# Altium integrated library TI_Logic_Flip-Flop,Latch,Register.IntLib: 2598 symbols (part 84 of 122)
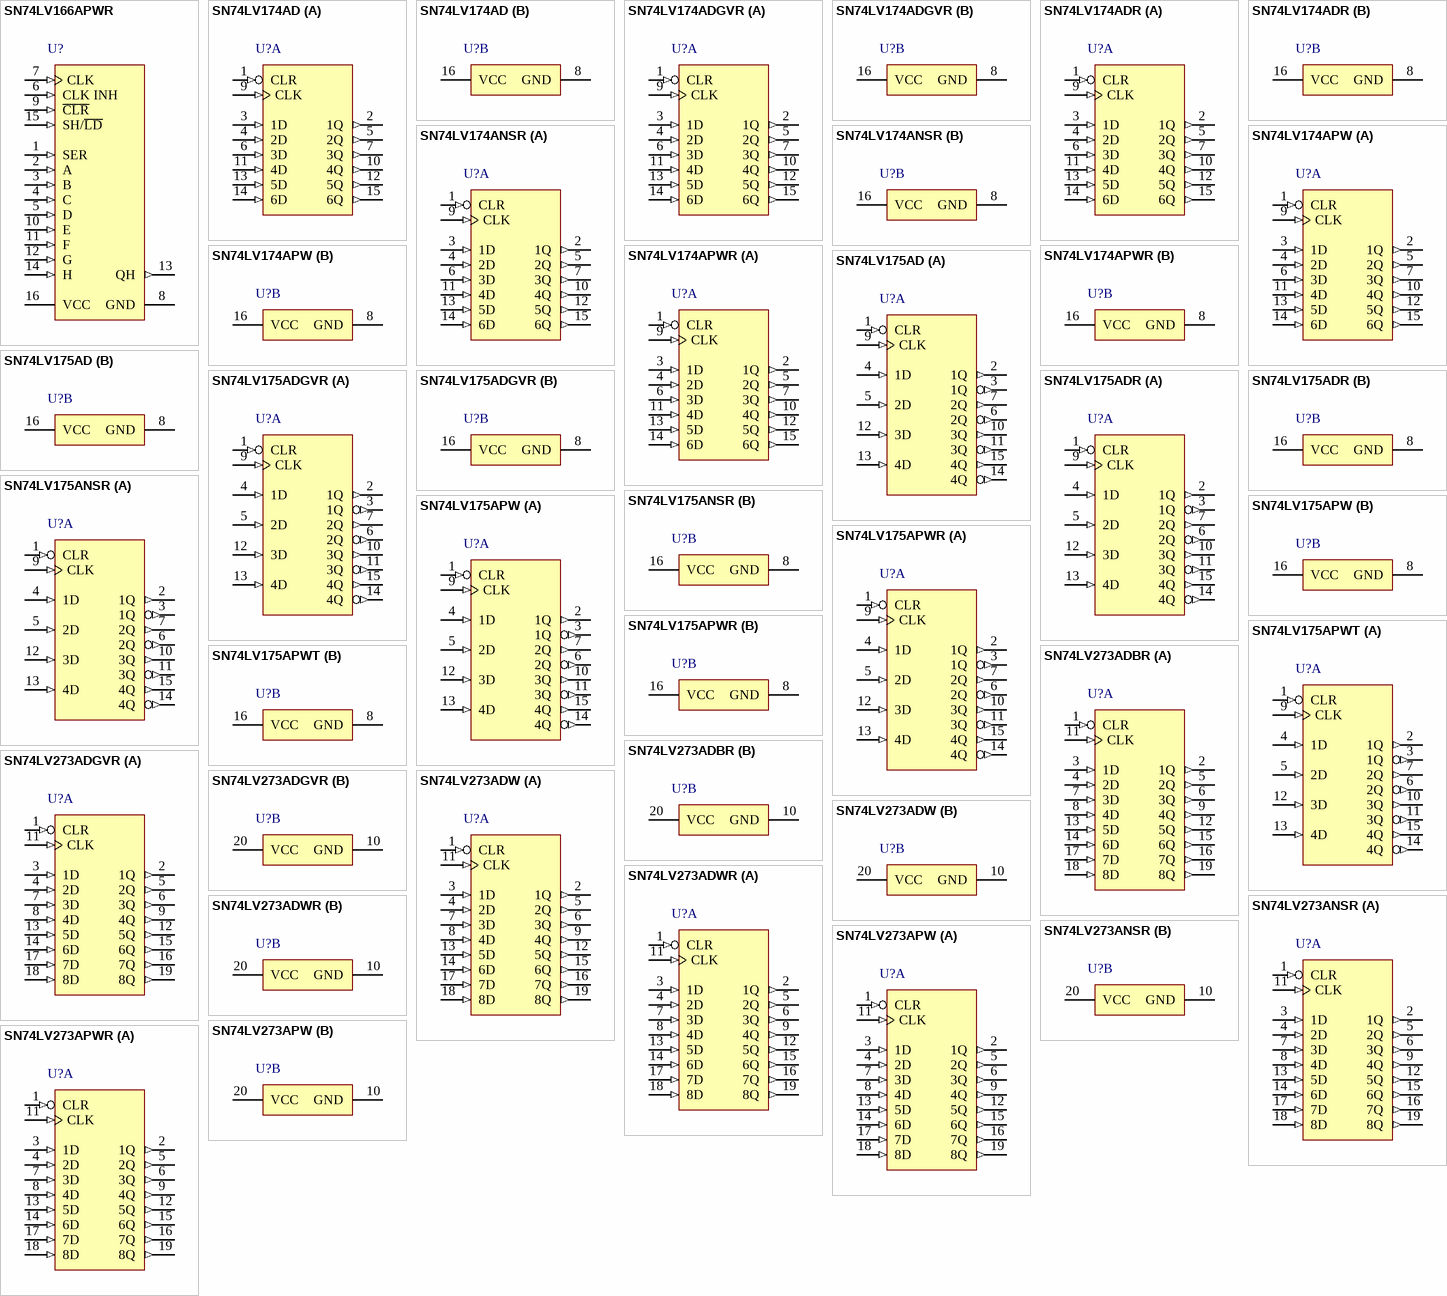
[diagram p222: symbols SN74LV166APWR to SN74LV273APWR]

## SN74LV174APW
designator U?
Hex D-Type Flip-Flops With Clear, PW0016A, TUBE; Generic Part Number: SN74LV174A; Manufacturer: Texas Instruments; PartNumber: SN74LV174APW; VCC(Min)(V): 2; VCC(Max)(V): 5.5; Output Type: CMOS; ICC @ Nom Voltage(Max)(mA): 0.02; Bits(#): 6; F @ Nom Voltage(Max)(Mhz): 70; Rating: Catalog; Technology Family: LV-A; Voltage(Nom)(V): 2.5,3.3,5; Schmitt Trigger: No; Output Drive (IOL/IOH)(Max)(mA): 50/-50; Output Logic: Non-inverted; tpd @ Nom Voltage(Max)(ns): 19.5,13.5,9; DatasheetVersion: SCLS401G; PackageReference: PW0016A; Supplier 1: Digi-Key; Supplier Part Number 1: SN74LV174APW-ND; Supplier 2: Farnell; Supplier Part Number 2: 1741124; Supplier 3: Mouser; Supplier Part Number 3: 595-SN74LV174APW; Input Type: CMOS; Operating Temperature Range(C): -40 to 85; 3-State Output: No; Code_JEDEC: MO-153; ComponentLink1Description: Manufacturer URL; ComponentLink1URL: http://www.ti.com/; ComponentLink2Description: Datasheet; ComponentLink2URL: http://www.ti.com/lit/ds/symlink/sn74lv174a.pdf; ComponentLink3Description: Package Specification; ComponentLink3URL: http://www.ti.com/lit/ml/mpds361/mpds361.pdf
footprint PW0016A_N (SOP, 16-Leads, Body 5.1x4.5mm, Pitch 0.65mm, IPC Medium Density)
footprint PW0016A_M (SOP, 16-Leads, Body 5.1x4.5mm, Pitch 0.65mm, IPC Low Density)
footprint PW0016A_L (SOP, 16-Leads, Body 5.1x4.5mm, Pitch 0.65mm, IPC High Density)
part A pins: 1 CLR (in), 2 1Q (out), 3 1D (in), 4 2D (in), 5 2Q (out), 6 3D (in), 7 3Q (out), 9 CLK (in), 10 4Q (out), 11 4D (in), 12 5Q (out), 13 5D (in), 14 6D (in), 15 6Q (out)
part B pins: 8 GND (power), 16 VCC (power)

## SN74LV174APWR
designator U?
Hex D-Type Flip-Flops With Clear, PW0016A, LARGE T&R; Generic Part Number: SN74LV174A; Manufacturer: Texas Instruments; PartNumber: SN74LV174APWR; VCC(Min)(V): 2; VCC(Max)(V): 5.5; Output Type: CMOS; ICC @ Nom Voltage(Max)(mA): 0.02; Bits(#): 6; F @ Nom Voltage(Max)(Mhz): 70; Rating: Catalog; Technology Family: LV-A; Voltage(Nom)(V): 2.5,3.3,5; Schmitt Trigger: No; Output Drive (IOL/IOH)(Max)(mA): 50/-50; Output Logic: Non-inverted; tpd @ Nom Voltage(Max)(ns): 19.5,13.5,9; DatasheetVersion: SCLS401G; PackageReference: PW0016A; Supplier 1: Digi-Key; Supplier Part Number 1: 296-3792-2-ND; Supplier 2: Digi-Key; Supplier Part Number 2: 296-3792-1-ND; Supplier 3: Mouser; Supplier Part Number 3: 595-SN74LV174APWR; Input Type: CMOS; Operating Temperature Range(C): -40 to 85; 3-State Output: No; Code_JEDEC: MO-153; ComponentLink1Description: Manufacturer URL; ComponentLink1URL: http://www.ti.com/; ComponentLink2Description: Datasheet; ComponentLink2URL: http://www.ti.com/lit/ds/symlink/sn74lv174a.pdf; ComponentLink3Description: Package Specification; ComponentLink3URL: http://www.ti.com/lit/ml/mpds361/mpds361.pdf
footprint PW0016A_N (SOP, 16-Leads, Body 5.1x4.5mm, Pitch 0.65mm, IPC Medium Density)
footprint PW0016A_M (SOP, 16-Leads, Body 5.1x4.5mm, Pitch 0.65mm, IPC Low Density)
footprint PW0016A_L (SOP, 16-Leads, Body 5.1x4.5mm, Pitch 0.65mm, IPC High Density)
part A pins: 1 CLR (in), 2 1Q (out), 3 1D (in), 4 2D (in), 5 2Q (out), 6 3D (in), 7 3Q (out), 9 CLK (in), 10 4Q (out), 11 4D (in), 12 5Q (out), 13 5D (in), 14 6D (in), 15 6Q (out)
part B pins: 8 GND (power), 16 VCC (power)

## SN74LV175AD
designator U?
Quadruple D-Type Flip-Flops With Clear, D0016A, TUBE; Generic Part Number: SN74LV175A; Manufacturer: Texas Instruments; PartNumber: SN74LV175AD; VCC(Min)(V): 2; VCC(Max)(V): 5.5; Output Type: CMOS; ICC @ Nom Voltage(Max)(mA): 0.02; Bits(#): 4; F @ Nom Voltage(Max)(Mhz): 70; Rating: Catalog; Technology Family: LV-A; Voltage(Nom)(V): 2.5,3.3,5; Schmitt Trigger: No; Output Drive (IOL/IOH)(Max)(mA): 50/-50; Output Logic: Inverted,Non-inverted; tpd @ Nom Voltage(Max)(ns): 20,12,7.5; DatasheetVersion: SCLS400G; PackageReference: D0016A; Supplier 1: Digi-Key; Supplier Part Number 1: 296-1682-5-ND; Supplier 2: Newark; Supplier Part Number 2: 76C4769; Supplier 3: Mouser; Supplier Part Number 3: 595-SN74LV175AD; Input Type: CMOS; Operating Temperature Range(C): -40 to 85; 3-State Output: No; Code_JEDEC: MS-012 variation AC; ComponentLink1Description: Manufacturer URL; ComponentLink1URL: http://www.ti.com/; ComponentLink2Description: Datasheet; ComponentLink2URL: http://www.ti.com/lit/ds/symlink/sn74lv175a.pdf; ComponentLink3Description: Package Specification; ComponentLink3URL: http://www.ti.com/lit/ml/mpds178g/mpds178g.pdf
footprint D0016A_N (SOIC, 16-Leads, Body 10x4mm, Pitch 1.27mm, IPC Medium Density)
footprint D0016A_M (SOIC, 16-Leads, Body 10x4mm, Pitch 1.27mm, IPC Low Density)
footprint D0016A_L (SOIC, 16-Leads, Body 10x4mm, Pitch 1.27mm, IPC High Density)
part A pins: 1 CLR (in), 2 1Q (out), 3 1Q (out), 4 1D (in), 5 2D (in), 6 2Q (out), 7 2Q (out), 9 CLK (in), 10 3Q (out), 11 3Q (out), 12 3D (in), 13 4D (in), 14 4Q (out), 15 4Q (out)
part B pins: 8 GND (power), 16 VCC (power)

## SN74LV175ADGVR
designator U?
Quadruple D-Type Flip-Flops With Clear, DGV0016A, LARGE T&R; Generic Part Number: SN74LV175A; Manufacturer: Texas Instruments; PartNumber: SN74LV175ADGVR; VCC(Min)(V): 2; VCC(Max)(V): 5.5; Output Type: CMOS; ICC @ Nom Voltage(Max)(mA): 0.02; Bits(#): 4; F @ Nom Voltage(Max)(Mhz): 70; Rating: Catalog; Technology Family: LV-A; Voltage(Nom)(V): 2.5,3.3,5; Schmitt Trigger: No; Output Drive (IOL/IOH)(Max)(mA): 50/-50; Output Logic: Inverted,Non-inverted; tpd @ Nom Voltage(Max)(ns): 20,12,7.5; DatasheetVersion: SCLS400G; PackageReference: DGV0016A; Supplier 1: Digi-Key; Supplier Part Number 1: 296-23263-2-ND; Supplier 2: Digi-Key; Supplier Part Number 2: 296-23263-1-ND; Supplier 3: Digi-Key; Supplier Part Number 3: 296-23263-6-ND; Supplier 4: Mouser; Supplier Part Number 4: 595-SN74LV175ADGVR; Input Type: CMOS; Operating Temperature Range(C): -40 to 85; 3-State Output: No; Code_JEDEC: MO-194; ComponentLink1Description: Manufacturer URL; ComponentLink1URL: http://www.ti.com/; ComponentLink2Description: Datasheet; ComponentLink2URL: http://www.ti.com/lit/ds/symlink/sn74lv175a.pdf; ComponentLink3Description: Package Specification; ComponentLink3URL: http://www.ti.com/lit/ml/mpds006c/mpds006c.pdf
footprint DGV0016A_N (SOP, 16-Leads, Body 4.5x3.7mm, Pitch 0.4mm, IPC Medium Density)
footprint DGV0016A_M (SOP, 16-Leads, Body 4.5x3.7mm, Pitch 0.4mm, IPC Low Density)
footprint DGV0016A_L (SOP, 16-Leads, Body 4.5x3.7mm, Pitch 0.4mm, IPC High Density)
part A pins: 1 CLR (in), 2 1Q (out), 3 1Q (out), 4 1D (in), 5 2D (in), 6 2Q (out), 7 2Q (out), 9 CLK (in), 10 3Q (out), 11 3Q (out), 12 3D (in), 13 4D (in), 14 4Q (out), 15 4Q (out)
part B pins: 8 GND (power), 16 VCC (power)

## SN74LV175ADR
designator U?
Quadruple D-Type Flip-Flops With Clear, D0016A, LARGE T&R; Generic Part Number: SN74LV175A; Manufacturer: Texas Instruments; PartNumber: SN74LV175ADR; VCC(Min)(V): 2; VCC(Max)(V): 5.5; Output Type: CMOS; ICC @ Nom Voltage(Max)(mA): 0.02; Bits(#): 4; F @ Nom Voltage(Max)(Mhz): 70; Rating: Catalog; Technology Family: LV-A; Voltage(Nom)(V): 2.5,3.3,5; Schmitt Trigger: No; Output Drive (IOL/IOH)(Max)(mA): 50/-50; Output Logic: Inverted,Non-inverted; tpd @ Nom Voltage(Max)(ns): 20,12,7.5; DatasheetVersion: SCLS400G; PackageReference: D0016A; Supplier 1: Digi-Key; Supplier Part Number 1: 296-38246-2-ND; Supplier 2: Digi-Key; Supplier Part Number 2: 296-38246-1-ND; Supplier 3: Digi-Key; Supplier Part Number 3: 296-38246-6-ND; Supplier 4: Mouser; Supplier Part Number 4: 595-SN74LV175ADR; Input Type: CMOS; Operating Temperature Range(C): -40 to 85; 3-State Output: No; Code_JEDEC: MS-012 variation AC; ComponentLink1Description: Manufacturer URL; ComponentLink1URL: http://www.ti.com/; ComponentLink2Description: Datasheet; ComponentLink2URL: http://www.ti.com/lit/ds/symlink/sn74lv175a.pdf; ComponentLink3Description: Package Specification; ComponentLink3URL: http://www.ti.com/lit/ml/mpds178g/mpds178g.pdf
footprint D0016A_N (SOIC, 16-Leads, Body 10x4mm, Pitch 1.27mm, IPC Medium Density)
footprint D0016A_M (SOIC, 16-Leads, Body 10x4mm, Pitch 1.27mm, IPC Low Density)
footprint D0016A_L (SOIC, 16-Leads, Body 10x4mm, Pitch 1.27mm, IPC High Density)
part A pins: 1 CLR (in), 2 1Q (out), 3 1Q (out), 4 1D (in), 5 2D (in), 6 2Q (out), 7 2Q (out), 9 CLK (in), 10 3Q (out), 11 3Q (out), 12 3D (in), 13 4D (in), 14 4Q (out), 15 4Q (out)
part B pins: 8 GND (power), 16 VCC (power)

## SN74LV175ANSR
designator U?
Quadruple D-Type Flip-Flops With Clear, NS0016A, LARGE T&R; Generic Part Number: SN74LV175A; Manufacturer: Texas Instruments; PartNumber: SN74LV175ANSR; VCC(Min)(V): 2; VCC(Max)(V): 5.5; Output Type: CMOS; ICC @ Nom Voltage(Max)(mA): 0.02; Bits(#): 4; F @ Nom Voltage(Max)(Mhz): 70; Rating: Catalog; Technology Family: LV-A; Voltage(Nom)(V): 2.5,3.3,5; Schmitt Trigger: No; Output Drive (IOL/IOH)(Max)(mA): 50/-50; Output Logic: Inverted,Non-inverted; tpd @ Nom Voltage(Max)(ns): 20,12,7.5; DatasheetVersion: SCLS400G; PackageReference: NS0016A; Supplier 1: Digi-Key; Supplier Part Number 1: 296-13229-2-ND; Supplier 2: Digi-Key; Supplier Part Number 2: 296-13229-1-ND; Supplier 3: Digi-Key; Supplier Part Number 3: 296-13229-6-ND; Supplier 4: Mouser; Supplier Part Number 4: 595-SN74LV175ANSR; Input Type: CMOS; Operating Temperature Range(C): -40 to 85; 3-State Output: No; ComponentLink1Description: Manufacturer URL; ComponentLink1URL: http://www.ti.com/; ComponentLink2Description: Datasheet; ComponentLink2URL: http://www.ti.com/lit/ds/symlink/sn74lv175a.pdf; ComponentLink3Description: Package Specification; ComponentLink3URL: http://www.ti.com/lit/ml/msop002a/msop002a.pdf
footprint NS0016A_N (SOIC,16-Leads,Body 10.5x5.6mm,Pitch 1.27mm,IPC Medium Density)
footprint NS0016A_M (SOIC,16-Leads,Body 10.5x5.6mm,Pitch 1.27mm,IPC Low Density)
footprint NS0016A_L (SOIC,16-Leads,Body 10.5x5.6mm,Pitch 1.27mm,IPC High Density)
part A pins: 1 CLR (in), 2 1Q (out), 3 1Q (out), 4 1D (in), 5 2D (in), 6 2Q (out), 7 2Q (out), 9 CLK (in), 10 3Q (out), 11 3Q (out), 12 3D (in), 13 4D (in), 14 4Q (out), 15 4Q (out)
part B pins: 8 GND (power), 16 VCC (power)

## SN74LV175APW
designator U?
Quadruple D-Type Flip-Flops With Clear, PW0016A, TUBE; Generic Part Number: SN74LV175A; Manufacturer: Texas Instruments; PartNumber: SN74LV175APW; VCC(Min)(V): 2; VCC(Max)(V): 5.5; Output Type: CMOS; ICC @ Nom Voltage(Max)(mA): 0.02; Bits(#): 4; F @ Nom Voltage(Max)(Mhz): 70; Rating: Catalog; Technology Family: LV-A; Voltage(Nom)(V): 2.5,3.3,5; Schmitt Trigger: No; Output Drive (IOL/IOH)(Max)(mA): 50/-50; Output Logic: Inverted,Non-inverted; tpd @ Nom Voltage(Max)(ns): 20,12,7.5; DatasheetVersion: SCLS400G; PackageReference: PW0016A; Supplier 1: Digi-Key; Supplier Part Number 1: SN74LV175APW-ND; Supplier 2: Mouser; Supplier Part Number 2: 595-SN74LV175APW; Input Type: CMOS; Operating Temperature Range(C): -40 to 85; 3-State Output: No; Code_JEDEC: MO-153; ComponentLink1Description: Manufacturer URL; ComponentLink1URL: http://www.ti.com/; ComponentLink2Description: Datasheet; ComponentLink2URL: http://www.ti.com/lit/ds/symlink/sn74lv175a.pdf; ComponentLink3Description: Package Specification; ComponentLink3URL: http://www.ti.com/lit/ml/mpds361/mpds361.pdf
footprint PW0016A_N (SOP, 16-Leads, Body 5.1x4.5mm, Pitch 0.65mm, IPC Medium Density)
footprint PW0016A_M (SOP, 16-Leads, Body 5.1x4.5mm, Pitch 0.65mm, IPC Low Density)
footprint PW0016A_L (SOP, 16-Leads, Body 5.1x4.5mm, Pitch 0.65mm, IPC High Density)
part A pins: 1 CLR (in), 2 1Q (out), 3 1Q (out), 4 1D (in), 5 2D (in), 6 2Q (out), 7 2Q (out), 9 CLK (in), 10 3Q (out), 11 3Q (out), 12 3D (in), 13 4D (in), 14 4Q (out), 15 4Q (out)
part B pins: 8 GND (power), 16 VCC (power)

## SN74LV175APWR
designator U?
Quadruple D-Type Flip-Flops With Clear, PW0016A, LARGE T&R; Generic Part Number: SN74LV175A; Manufacturer: Texas Instruments; PartNumber: SN74LV175APWR; VCC(Min)(V): 2; VCC(Max)(V): 5.5; Output Type: CMOS; ICC @ Nom Voltage(Max)(mA): 0.02; Bits(#): 4; F @ Nom Voltage(Max)(Mhz): 70; Rating: Catalog; Technology Family: LV-A; Voltage(Nom)(V): 2.5,3.3,5; Schmitt Trigger: No; Output Drive (IOL/IOH)(Max)(mA): 50/-50; Output Logic: Inverted,Non-inverted; tpd @ Nom Voltage(Max)(ns): 20,12,7.5; DatasheetVersion: SCLS400G; PackageReference: PW0016A; Supplier 1: Digi-Key; Supplier Part Number 1: 296-3793-2-ND; Supplier 2: Digi-Key; Supplier Part Number 2: 296-3793-1-ND; Supplier 3: Digi-Key; Supplier Part Number 3: 296-3793-6-ND; Supplier 4: Mouser; Supplier Part Number 4: 595-SN74LV175APWR; Input Type: CMOS; Operating Temperature Range(C): -40 to 85; 3-State Output: No; Code_JEDEC: MO-153; ComponentLink1Description: Manufacturer URL; ComponentLink1URL: http://www.ti.com/; ComponentLink2Description: Datasheet; ComponentLink2URL: http://www.ti.com/lit/ds/symlink/sn74lv175a.pdf; ComponentLink3Description: Package Specification; ComponentLink3URL: http://www.ti.com/lit/ml/mpds361/mpds361.pdf
footprint PW0016A_N (SOP, 16-Leads, Body 5.1x4.5mm, Pitch 0.65mm, IPC Medium Density)
footprint PW0016A_M (SOP, 16-Leads, Body 5.1x4.5mm, Pitch 0.65mm, IPC Low Density)
footprint PW0016A_L (SOP, 16-Leads, Body 5.1x4.5mm, Pitch 0.65mm, IPC High Density)
part A pins: 1 CLR (in), 2 1Q (out), 3 1Q (out), 4 1D (in), 5 2D (in), 6 2Q (out), 7 2Q (out), 9 CLK (in), 10 3Q (out), 11 3Q (out), 12 3D (in), 13 4D (in), 14 4Q (out), 15 4Q (out)
part B pins: 8 GND (power), 16 VCC (power)

## SN74LV175APWT
designator U?
Quadruple D-Type Flip-Flops With Clear, PW0016A, SMALL T&R; Generic Part Number: SN74LV175A; Manufacturer: Texas Instruments; PartNumber: SN74LV175APWT; VCC(Min)(V): 2; VCC(Max)(V): 5.5; Output Type: CMOS; ICC @ Nom Voltage(Max)(mA): 0.02; Bits(#): 4; F @ Nom Voltage(Max)(Mhz): 70; Rating: Catalog; Technology Family: LV-A; Voltage(Nom)(V): 2.5,3.3,5; Schmitt Trigger: No; Output Drive (IOL/IOH)(Max)(mA): 50/-50; Output Logic: Inverted,Non-inverted; tpd @ Nom Voltage(Max)(ns): 20,12,7.5; DatasheetVersion: SCLS400G; PackageReference: PW0016A; Supplier 1: Digi-Key; Supplier Part Number 1: 296-31868-2-ND; Supplier 2: Digi-Key; Supplier Part Number 2: 296-31868-1-ND; Supplier 3: Digi-Key; Supplier Part Number 3: 296-31868-6-ND; Supplier 4: Mouser; Supplier Part Number 4: 595-SN74LV175APWT; Input Type: CMOS; Operating Temperature Range(C): -40 to 85; 3-State Output: No; Code_JEDEC: MO-153; ComponentLink1Description: Manufacturer URL; ComponentLink1URL: http://www.ti.com/; ComponentLink2Description: Datasheet; ComponentLink2URL: http://www.ti.com/lit/ds/symlink/sn74lv175a.pdf; ComponentLink3Description: Package Specification; ComponentLink3URL: http://www.ti.com/lit/ml/mpds361/mpds361.pdf
footprint PW0016A_N (SOP, 16-Leads, Body 5.1x4.5mm, Pitch 0.65mm, IPC Medium Density)
footprint PW0016A_M (SOP, 16-Leads, Body 5.1x4.5mm, Pitch 0.65mm, IPC Low Density)
footprint PW0016A_L (SOP, 16-Leads, Body 5.1x4.5mm, Pitch 0.65mm, IPC High Density)
part A pins: 1 CLR (in), 2 1Q (out), 3 1Q (out), 4 1D (in), 5 2D (in), 6 2Q (out), 7 2Q (out), 9 CLK (in), 10 3Q (out), 11 3Q (out), 12 3D (in), 13 4D (in), 14 4Q (out), 15 4Q (out)
part B pins: 8 GND (power), 16 VCC (power)

## SN74LV273ADBR
designator U?
Octal D-Type Flip-Flops With Clear, DB0020A, LARGE T&R; Generic Part Number: SN74LV273A; Manufacturer: Texas Instruments; PartNumber: SN74LV273ADBR; VCC(Min)(V): 2; VCC(Max)(V): 5.5; Output Type: CMOS; Output: 2S; ICC @ Nom Voltage(Max)(mA): 0.02; Bits(#): 8; F @ Nom Voltage(Max)(Mhz): 70; Rating: Catalog; Technology Family: LV-A; Voltage(Nom)(V): 2.5,3.3,5; Schmitt Trigger: No; Output Drive (IOL/IOH)(Max)(mA): 50/-50; Output Logic: Non-inverted; tpd @ Nom Voltage(Max)(ns): 20.5,16,10.5; DatasheetVersion: SCLS399K; PackageReference: DB0020A; Supplier 1: Digi-Key; Supplier Part Number 1: 296-12349-2-ND; Supplier 2: Digi-Key; Supplier Part Number 2: 296-12349-1-ND; Supplier 3: Digi-Key; Supplier Part Number 3: 296-12349-6-ND; Supplier 4: Mouser; Supplier Part Number 4: 595-SN74LV273ADBR; Input Type: CMOS; Operating Temperature Range(C): -40 to 125,-40 to 85; 3-State Output: No; Code_JEDEC: MO-150; ComponentLink1Description: Manufacturer URL; ComponentLink1URL: http://www.ti.com/; ComponentLink2Description: Datasheet; ComponentLink2URL: http://www.ti.com/lit/ds/symlink/sn74lv273a.pdf; ComponentLink3Description: Package Specification; ComponentLink3URL: http://www.ti.com/lit/ml/mpds508/mpds508.pdf
footprint DB0020A_N (SOP, 20-Leads, Body 5.6x7.5mm, Pitch 0.65mm, IPC Medium Density)
footprint DB0020A_M (SOP, 20-Leads, Body 5.6x7.5mm, Pitch 0.65mm, IPC Low Density)
footprint DB0020A_L (SOP, 20-Leads, Body 5.6x7.5mm, Pitch 0.65mm, IPC High Density)
part A pins: 1 CLR (in) "Clear Pin", 2 1Q (out) "1Q Output", 3 1D (in) "1D Input", 4 2D (in) "2D Input", 5 2Q (out) "2Q Output", 6 3Q (out) "3Q Output", 7 3D (in) "3D Input", 8 4D (in) "4D Input", 9 4Q (out) "4Q Output", 11 CLK (in) "Clock Pin", 12 5Q (out) "5Q Output", 13 5D (in) "5D Input", 14 6D (in) "6D Input", 15 6Q (out) "6Q Output", 16 7Q (out) "7Q Output", 17 7D (in) "7D Input", 18 8D (in) "8D Input", 19 8Q (out) "8Q Output"
part B pins: 10 GND (power) "Ground Pin", 20 VCC (power) "Power Pin"

## SN74LV273ADGVR
designator U?
Octal D-Type Flip-Flops With Clear, DGV0020A, LARGE T&R; Generic Part Number: SN74LV273A; Manufacturer: Texas Instruments; PartNumber: SN74LV273ADGVR; VCC(Min)(V): 2; VCC(Max)(V): 5.5; Output Type: CMOS; Output: 2S; ICC @ Nom Voltage(Max)(mA): 0.02; Bits(#): 8; F @ Nom Voltage(Max)(Mhz): 70; Rating: Catalog; Technology Family: LV-A; Voltage(Nom)(V): 2.5,3.3,5; Schmitt Trigger: No; Output Drive (IOL/IOH)(Max)(mA): 50/-50; Output Logic: Non-inverted; tpd @ Nom Voltage(Max)(ns): 20.5,16,10.5; DatasheetVersion: SCLS399K; PackageReference: DGV0020A; Supplier 1: Digi-Key; Supplier Part Number 1: 296-3810-2-ND; Supplier 2: Digi-Key; Supplier Part Number 2: 296-3810-1-ND; Supplier 3: Digi-Key; Supplier Part Number 3: 296-3810-6-ND; Supplier 4: Mouser; Supplier Part Number 4: 595-SN74LV273ADGVR; Input Type: CMOS; Operating Temperature Range(C): -40 to 125,-40 to 85; 3-State Output: No; Code_JEDEC: MO-194; ComponentLink1Description: Manufacturer URL; ComponentLink1URL: http://www.ti.com/; ComponentLink2Description: Datasheet; ComponentLink2URL: http://www.ti.com/lit/ds/symlink/sn74lv273a.pdf; ComponentLink3Description: Package Specification; ComponentLink3URL: http://www.ti.com/lit/ml/mpds006c/mpds006c.pdf
footprint DGV0020A_N (SOP, 20-Leads, Body 4.5x5.1mm, Pitch 0.4mm, IPC Medium Density)
footprint DGV0020A_M (SOP, 20-Leads, Body 4.5x5.1mm, Pitch 0.4mm, IPC Low Density)
footprint DGV0020A_L (SOP, 20-Leads, Body 4.5x5.1mm, Pitch 0.4mm, IPC High Density)
part A pins: 1 CLR (in) "Clear Pin", 2 1Q (out) "1Q Output", 3 1D (in) "1D Input", 4 2D (in) "2D Input", 5 2Q (out) "2Q Output", 6 3Q (out) "3Q Output", 7 3D (in) "3D Input", 8 4D (in) "4D Input", 9 4Q (out) "4Q Output", 11 CLK (in) "Clock Pin", 12 5Q (out) "5Q Output", 13 5D (in) "5D Input", 14 6D (in) "6D Input", 15 6Q (out) "6Q Output", 16 7Q (out) "7Q Output", 17 7D (in) "7D Input", 18 8D (in) "8D Input", 19 8Q (out) "8Q Output"
part B pins: 10 GND (power) "Ground Pin", 20 VCC (power) "Power Pin"

## SN74LV273ADW
designator U?
Octal D-Type Flip-Flops With Clear, DW0020A, TUBE; Generic Part Number: SN74LV273A; Manufacturer: Texas Instruments; PartNumber: SN74LV273ADW; VCC(Min)(V): 2; VCC(Max)(V): 5.5; Output Type: CMOS; Output: 2S; ICC @ Nom Voltage(Max)(mA): 0.02; Bits(#): 8; F @ Nom Voltage(Max)(Mhz): 70; Rating: Catalog; Technology Family: LV-A; Voltage(Nom)(V): 2.5,3.3,5; Schmitt Trigger: No; Output Drive (IOL/IOH)(Max)(mA): 50/-50; Output Logic: Non-inverted; tpd @ Nom Voltage(Max)(ns): 20.5,16,10.5; DatasheetVersion: SCLS399K; PackageReference: DW0020A; Supplier 1: Digi-Key; Supplier Part Number 1: 296-3811-5-ND; Supplier 2: Farnell; Supplier Part Number 2: 1740041; Supplier 3: Newark; Supplier Part Number 3: 27C1127; Supplier 4: Mouser; Supplier Part Number 4: 595-SN74LV273ADW; Input Type: CMOS; Operating Temperature Range(C): -40 to 125,-40 to 85; 3-State Output: No; Code_JEDEC: MS-013; ComponentLink1Description: Manufacturer URL; ComponentLink1URL: http://www.ti.com/; ComponentLink2Description: Datasheet; ComponentLink2URL: http://www.ti.com/lit/ds/symlink/sn74lv273a.pdf; ComponentLink3Description: Package Specification; ComponentLink3URL: http://www.ti.com/lit/ml/mpds173a/mpds173a.pdf
footprint DW0020A_N (SOIC, 20-Leads, Body 13x7.6mm, Pitch 1.27mm, IPC Medium Density)
footprint DW0020A_M (SOIC, 20-Leads, Body 13x7.6mm, Pitch 1.27mm, IPC Low Density)
footprint DW0020A_L (SOIC, 20-Leads, Body 13x7.6mm, Pitch 1.27mm, IPC High Density)
part A pins: 1 CLR (in) "Clear Pin", 2 1Q (out) "1Q Output", 3 1D (in) "1D Input", 4 2D (in) "2D Input", 5 2Q (out) "2Q Output", 6 3Q (out) "3Q Output", 7 3D (in) "3D Input", 8 4D (in) "4D Input", 9 4Q (out) "4Q Output", 11 CLK (in) "Clock Pin", 12 5Q (out) "5Q Output", 13 5D (in) "5D Input", 14 6D (in) "6D Input", 15 6Q (out) "6Q Output", 16 7Q (out) "7Q Output", 17 7D (in) "7D Input", 18 8D (in) "8D Input", 19 8Q (out) "8Q Output"
part B pins: 10 GND (power) "Ground Pin", 20 VCC (power) "Power Pin"

## SN74LV273ADWR
designator U?
Octal D-Type Flip-Flops With Clear, DW0020A, LARGE T&R; Generic Part Number: SN74LV273A; Manufacturer: Texas Instruments; PartNumber: SN74LV273ADWR; VCC(Min)(V): 2; VCC(Max)(V): 5.5; Output Type: CMOS; Output: 2S; ICC @ Nom Voltage(Max)(mA): 0.02; Bits(#): 8; F @ Nom Voltage(Max)(Mhz): 70; Rating: Catalog; Technology Family: LV-A; Voltage(Nom)(V): 2.5,3.3,5; Schmitt Trigger: No; Output Drive (IOL/IOH)(Max)(mA): 50/-50; Output Logic: Non-inverted; tpd @ Nom Voltage(Max)(ns): 20.5,16,10.5; DatasheetVersion: SCLS399K; PackageReference: DW0020A; Supplier 1: Digi-Key; Supplier Part Number 1: 296-14904-2-ND; Supplier 2: Digi-Key; Supplier Part Number 2: 296-14904-1-ND; Supplier 3: Digi-Key; Supplier Part Number 3: 296-14904-6-ND; Supplier 4: Newark; Supplier Part Number 4: 76C4820; Supplier 5: Mouser; Supplier Part Number 5: 595-SN74LV273ADWR; Input Type: CMOS; Operating Temperature Range(C): -40 to 125,-40 to 85; 3-State Output: No; Code_JEDEC: MS-013; ComponentLink1Description: Manufacturer URL; ComponentLink1URL: http://www.ti.com/; ComponentLink2Description: Datasheet; ComponentLink2URL: http://www.ti.com/lit/ds/symlink/sn74lv273a.pdf; ComponentLink3Description: Package Specification; ComponentLink3URL: http://www.ti.com/lit/ml/mpds173a/mpds173a.pdf
footprint DW0020A_N (SOIC, 20-Leads, Body 13x7.6mm, Pitch 1.27mm, IPC Medium Density)
footprint DW0020A_M (SOIC, 20-Leads, Body 13x7.6mm, Pitch 1.27mm, IPC Low Density)
footprint DW0020A_L (SOIC, 20-Leads, Body 13x7.6mm, Pitch 1.27mm, IPC High Density)
part A pins: 1 CLR (in) "Clear Pin", 2 1Q (out) "1Q Output", 3 1D (in) "1D Input", 4 2D (in) "2D Input", 5 2Q (out) "2Q Output", 6 3Q (out) "3Q Output", 7 3D (in) "3D Input", 8 4D (in) "4D Input", 9 4Q (out) "4Q Output", 11 CLK (in) "Clock Pin", 12 5Q (out) "5Q Output", 13 5D (in) "5D Input", 14 6D (in) "6D Input", 15 6Q (out) "6Q Output", 16 7Q (out) "7Q Output", 17 7D (in) "7D Input", 18 8D (in) "8D Input", 19 8Q (out) "8Q Output"
part B pins: 10 GND (power) "Ground Pin", 20 VCC (power) "Power Pin"

## SN74LV273ANSR
designator U?
Octal D-Type Flip-Flops With Clear, NS0020A, LARGE T&R; Generic Part Number: SN74LV273A; Manufacturer: Texas Instruments; PartNumber: SN74LV273ANSR; VCC(Min)(V): 2; VCC(Max)(V): 5.5; Output Type: CMOS; Output: 2S; ICC @ Nom Voltage(Max)(mA): 0.02; Bits(#): 8; F @ Nom Voltage(Max)(Mhz): 70; Rating: Catalog; Technology Family: LV-A; Voltage(Nom)(V): 2.5,3.3,5; Schmitt Trigger: No; Output Drive (IOL/IOH)(Max)(mA): 50/-50; Output Logic: Non-inverted; tpd @ Nom Voltage(Max)(ns): 20.5,16,10.5; DatasheetVersion: SCLS399K; PackageReference: NS0020A; Supplier 1: Digi-Key; Supplier Part Number 1: 296-31872-2-ND; Supplier 2: Digi-Key; Supplier Part Number 2: 296-31872-1-ND; Supplier 3: Digi-Key; Supplier Part Number 3: 296-31872-6-ND; Supplier 4: Farnell; Supplier Part Number 4: 1236273; Supplier 5: Mouser; Supplier Part Number 5: 595-SN74LV273ANSR; Input Type: CMOS; Operating Temperature Range(C): -40 to 125,-40 to 85; 3-State Output: No; ComponentLink1Description: Manufacturer URL; ComponentLink1URL: http://www.ti.com/; ComponentLink2Description: Datasheet; ComponentLink2URL: http://www.ti.com/lit/ds/symlink/sn74lv273a.pdf; ComponentLink3Description: Package Specification; ComponentLink3URL: http://www.ti.com/lit/ml/msop002a/msop002a.pdf
footprint NS0020A_N (SOIC,20-Leads,Body 12.9x5.6mm,Pitch 1.27mm,IPC Medium Density)
footprint NS0020A_M (SOIC,20-Leads,Body 12.9x5.6mm,Pitch 1.27mm,IPC Low Density)
footprint NS0020A_L (SOIC,20-Leads,Body 12.9x5.6mm,Pitch 1.27mm,IPC High Density)
part A pins: 1 CLR (in) "Clear Pin", 2 1Q (out) "1Q Output", 3 1D (in) "1D Input", 4 2D (in) "2D Input", 5 2Q (out) "2Q Output", 6 3Q (out) "3Q Output", 7 3D (in) "3D Input", 8 4D (in) "4D Input", 9 4Q (out) "4Q Output", 11 CLK (in) "Clock Pin", 12 5Q (out) "5Q Output", 13 5D (in) "5D Input", 14 6D (in) "6D Input", 15 6Q (out) "6Q Output", 16 7Q (out) "7Q Output", 17 7D (in) "7D Input", 18 8D (in) "8D Input", 19 8Q (out) "8Q Output"
part B pins: 10 GND (power) "Ground Pin", 20 VCC (power) "Power Pin"

## SN74LV273APW
designator U?
Octal D-Type Flip-Flops With Clear, PW0020A, TUBE; Generic Part Number: SN74LV273A; Manufacturer: Texas Instruments; PartNumber: SN74LV273APW; VCC(Min)(V): 2; VCC(Max)(V): 5.5; Output Type: CMOS; Output: 2S; ICC @ Nom Voltage(Max)(mA): 0.02; Bits(#): 8; F @ Nom Voltage(Max)(Mhz): 70; Rating: Catalog; Technology Family: LV-A; Voltage(Nom)(V): 2.5,3.3,5; Schmitt Trigger: No; Output Drive (IOL/IOH)(Max)(mA): 50/-50; Output Logic: Non-inverted; tpd @ Nom Voltage(Max)(ns): 20.5,16,10.5; DatasheetVersion: SCLS399K; PackageReference: PW0020A; Supplier 1: Digi-Key; Supplier Part Number 1: 296-26550-5-ND; Supplier 2: Farnell; Supplier Part Number 2: 9592598; Supplier 3: Newark; Supplier Part Number 3: 98K0513; Supplier 4: Mouser; Supplier Part Number 4: 595-SN74LV273APW; Input Type: CMOS; Operating Temperature Range(C): -40 to 125,-40 to 85; 3-State Output: No; Code_JEDEC: MO-153; ComponentLink1Description: Manufacturer URL; ComponentLink1URL: http://www.ti.com/; ComponentLink2Description: Datasheet; ComponentLink2URL: http://www.ti.com/lit/ds/symlink/sn74lv273a.pdf; ComponentLink3Description: Package Specification; ComponentLink3URL: http://www.ti.com/lit/ml/mpds362/mpds362.pdf
footprint PW0020A_N (SOP, 20-Leads, Body 6.6x4.5mm, Pitch 0.65mm, IPC Medium Density)
footprint PW0020A_M (SOP, 20-Leads, Body 6.6x4.5mm, Pitch 0.65mm, IPC Low Density)
footprint PW0020A_L (SOP, 20-Leads, Body 6.6x4.5mm, Pitch 0.65mm, IPC High Density)
part A pins: 1 CLR (in) "Clear Pin", 2 1Q (out) "1Q Output", 3 1D (in) "1D Input", 4 2D (in) "2D Input", 5 2Q (out) "2Q Output", 6 3Q (out) "3Q Output", 7 3D (in) "3D Input", 8 4D (in) "4D Input", 9 4Q (out) "4Q Output", 11 CLK (in) "Clock Pin", 12 5Q (out) "5Q Output", 13 5D (in) "5D Input", 14 6D (in) "6D Input", 15 6Q (out) "6Q Output", 16 7Q (out) "7Q Output", 17 7D (in) "7D Input", 18 8D (in) "8D Input", 19 8Q (out) "8Q Output"
part B pins: 10 GND (power) "Ground Pin", 20 VCC (power) "Power Pin"

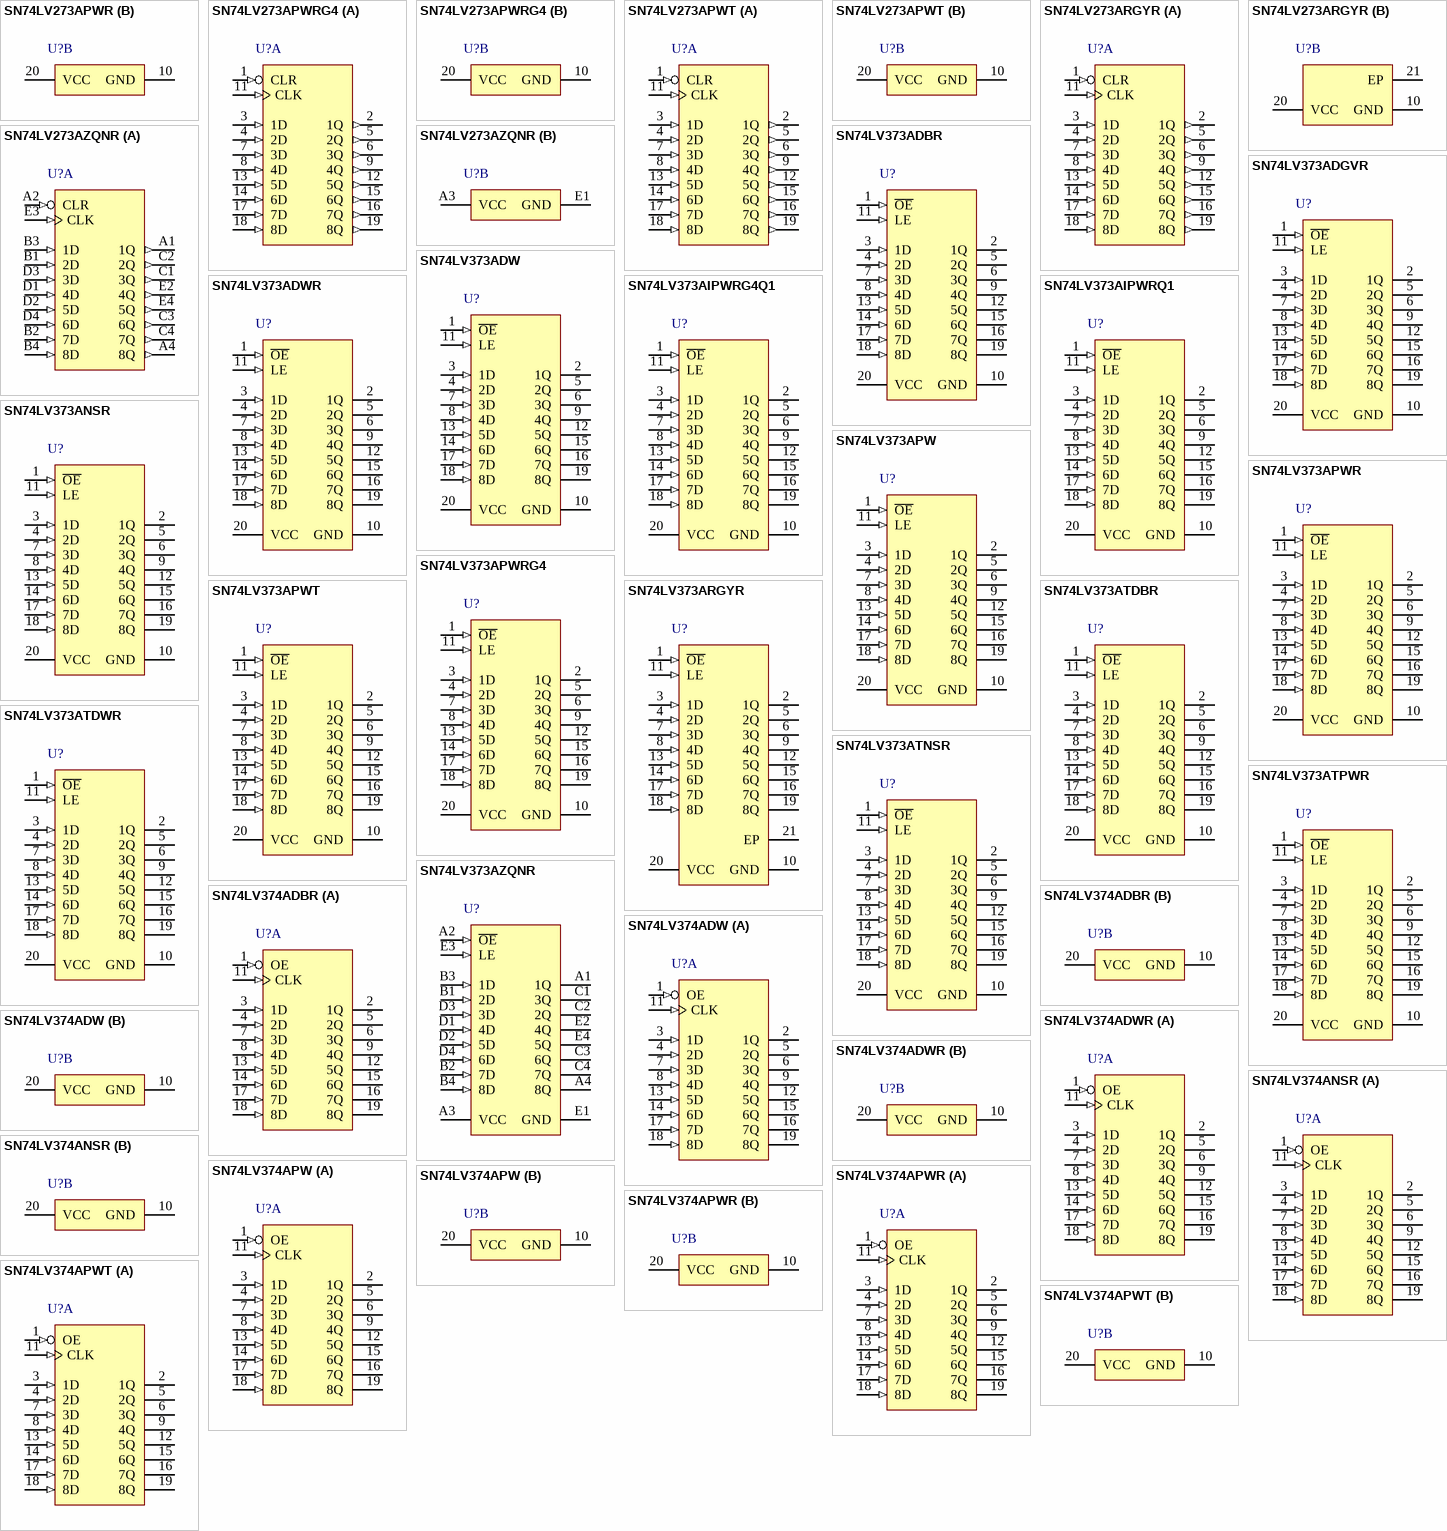
[diagram p100: symbols SN74LV273APWR to SN74LV374APWT]

## SN74LV273APWR
designator U?
Octal D-Type Flip-Flops With Clear, PW0020A, LARGE T&R; Generic Part Number: SN74LV273A; Manufacturer: Texas Instruments; PartNumber: SN74LV273APWR; VCC(Min)(V): 2; VCC(Max)(V): 5.5; Output Type: CMOS; Output: 2S; ICC @ Nom Voltage(Max)(mA): 0.02; Bits(#): 8; F @ Nom Voltage(Max)(Mhz): 70; Rating: Catalog; Technology Family: LV-A; Voltage(Nom)(V): 2.5,3.3,5; Schmitt Trigger: No; Output Drive (IOL/IOH)(Max)(mA): 50/-50; Output Logic: Non-inverted; tpd @ Nom Voltage(Max)(ns): 20.5,16,10.5; DatasheetVersion: SCLS399K; PackageReference: PW0020A; Supplier 1: Digi-Key; Supplier Part Number 1: 296-3812-2-ND; Supplier 2: Digi-Key; Supplier Part Number 2: 296-3812-1-ND; Supplier 3: Digi-Key; Supplier Part Number 3: 296-3812-6-ND; Supplier 4: Farnell; Supplier Part Number 4: 2437080; Supplier 5: Newark; Supplier Part Number 5: 76C4822; Supplier 6: Mouser; Supplier Part Number 6: 595-SN74LV273APWR; Input Type: CMOS; Operating Temperature Range(C): -40 to 125,-40 to 85; 3-State Output: No; Code_JEDEC: MO-153; ComponentLink1Description: Manufacturer URL; ComponentLink1URL: http://www.ti.com/; ComponentLink2Description: Datasheet; ComponentLink2URL: http://www.ti.com/lit/ds/symlink/sn74lv273a.pdf; ComponentLink3Description: Package Specification; ComponentLink3URL: http://www.ti.com/lit/ml/mpds362/mpds362.pdf
footprint PW0020A_N (SOP, 20-Leads, Body 6.6x4.5mm, Pitch 0.65mm, IPC Medium Density)
footprint PW0020A_M (SOP, 20-Leads, Body 6.6x4.5mm, Pitch 0.65mm, IPC Low Density)
footprint PW0020A_L (SOP, 20-Leads, Body 6.6x4.5mm, Pitch 0.65mm, IPC High Density)
part A pins: 1 CLR (in) "Clear Pin", 2 1Q (out) "1Q Output", 3 1D (in) "1D Input", 4 2D (in) "2D Input", 5 2Q (out) "2Q Output", 6 3Q (out) "3Q Output", 7 3D (in) "3D Input", 8 4D (in) "4D Input", 9 4Q (out) "4Q Output", 11 CLK (in) "Clock Pin", 12 5Q (out) "5Q Output", 13 5D (in) "5D Input", 14 6D (in) "6D Input", 15 6Q (out) "6Q Output", 16 7Q (out) "7Q Output", 17 7D (in) "7D Input", 18 8D (in) "8D Input", 19 8Q (out) "8Q Output"
part B pins: 10 GND (power) "Ground Pin", 20 VCC (power) "Power Pin"

## SN74LV273APWRG4
designator U?
Octal D-Type Flip-Flops With Clear, PW0020A, LARGE T&R; Generic Part Number: SN74LV273A; Manufacturer: Texas Instruments; PartNumber: SN74LV273APWRG4; VCC(Min)(V): 2; VCC(Max)(V): 5.5; Output Type: CMOS; Output: 2S; ICC @ Nom Voltage(Max)(mA): 0.02; Bits(#): 8; F @ Nom Voltage(Max)(Mhz): 70; Rating: Catalog; Technology Family: LV-A; Voltage(Nom)(V): 2.5,3.3,5; Schmitt Trigger: No; Output Drive (IOL/IOH)(Max)(mA): 50/-50; Output Logic: Non-inverted; tpd @ Nom Voltage(Max)(ns): 20.5,16,10.5; DatasheetVersion: SCLS399K; PackageReference: PW0020A; Supplier 1: Digi-Key; Supplier Part Number 1: 296-41641-2-ND; Supplier 2: Digi-Key; Supplier Part Number 2: 296-41641-1-ND; Supplier 3: Digi-Key; Supplier Part Number 3: 296-41641-6-ND; Supplier 4: Mouser; Supplier Part Number 4: 595-SN74LV273APWRG4; Input Type: CMOS; Operating Temperature Range(C): -40 to 125,-40 to 85; 3-State Output: No; Code_JEDEC: MO-153; ComponentLink1Description: Manufacturer URL; ComponentLink1URL: http://www.ti.com/; ComponentLink2Description: Datasheet; ComponentLink2URL: http://www.ti.com/lit/ds/symlink/sn74lv273a.pdf; ComponentLink3Description: Package Specification; ComponentLink3URL: http://www.ti.com/lit/ml/mpds362/mpds362.pdf
footprint PW0020A_N (SOP, 20-Leads, Body 6.6x4.5mm, Pitch 0.65mm, IPC Medium Density)
footprint PW0020A_M (SOP, 20-Leads, Body 6.6x4.5mm, Pitch 0.65mm, IPC Low Density)
footprint PW0020A_L (SOP, 20-Leads, Body 6.6x4.5mm, Pitch 0.65mm, IPC High Density)
part A pins: 1 CLR (in) "Clear Pin", 2 1Q (out) "1Q Output", 3 1D (in) "1D Input", 4 2D (in) "2D Input", 5 2Q (out) "2Q Output", 6 3Q (out) "3Q Output", 7 3D (in) "3D Input", 8 4D (in) "4D Input", 9 4Q (out) "4Q Output", 11 CLK (in) "Clock Pin", 12 5Q (out) "5Q Output", 13 5D (in) "5D Input", 14 6D (in) "6D Input", 15 6Q (out) "6Q Output", 16 7Q (out) "7Q Output", 17 7D (in) "7D Input", 18 8D (in) "8D Input", 19 8Q (out) "8Q Output"
part B pins: 10 GND (power) "Ground Pin", 20 VCC (power) "Power Pin"

## SN74LV273APWT
designator U?
Octal D-Type Flip-Flops With Clear, PW0020A, SMALL T&R; Generic Part Number: SN74LV273A; Manufacturer: Texas Instruments; PartNumber: SN74LV273APWT; VCC(Min)(V): 2; VCC(Max)(V): 5.5; Output Type: CMOS; Output: 2S; ICC @ Nom Voltage(Max)(mA): 0.02; Bits(#): 8; F @ Nom Voltage(Max)(Mhz): 70; Rating: Catalog; Technology Family: LV-A; Voltage(Nom)(V): 2.5,3.3,5; Schmitt Trigger: No; Output Drive (IOL/IOH)(Max)(mA): 50/-50; Output Logic: Non-inverted; tpd @ Nom Voltage(Max)(ns): 20.5,16,10.5; DatasheetVersion: SCLS399K; PackageReference: PW0020A; Supplier 1: Digi-Key; Supplier Part Number 1: SN74LV273APWT-ND; Supplier 2: Newark; Supplier Part Number 2: 73H4564; Supplier 3: Mouser; Supplier Part Number 3: 595-SN74LV273APWT; Input Type: CMOS; Operating Temperature Range(C): -40 to 125,-40 to 85; 3-State Output: No; Code_JEDEC: MO-153; ComponentLink1Description: Manufacturer URL; ComponentLink1URL: http://www.ti.com/; ComponentLink2Description: Datasheet; ComponentLink2URL: http://www.ti.com/lit/ds/symlink/sn74lv273a.pdf; ComponentLink3Description: Package Specification; ComponentLink3URL: http://www.ti.com/lit/ml/mpds362/mpds362.pdf
footprint PW0020A_N (SOP, 20-Leads, Body 6.6x4.5mm, Pitch 0.65mm, IPC Medium Density)
footprint PW0020A_M (SOP, 20-Leads, Body 6.6x4.5mm, Pitch 0.65mm, IPC Low Density)
footprint PW0020A_L (SOP, 20-Leads, Body 6.6x4.5mm, Pitch 0.65mm, IPC High Density)
part A pins: 1 CLR (in) "Clear Pin", 2 1Q (out) "1Q Output", 3 1D (in) "1D Input", 4 2D (in) "2D Input", 5 2Q (out) "2Q Output", 6 3Q (out) "3Q Output", 7 3D (in) "3D Input", 8 4D (in) "4D Input", 9 4Q (out) "4Q Output", 11 CLK (in) "Clock Pin", 12 5Q (out) "5Q Output", 13 5D (in) "5D Input", 14 6D (in) "6D Input", 15 6Q (out) "6Q Output", 16 7Q (out) "7Q Output", 17 7D (in) "7D Input", 18 8D (in) "8D Input", 19 8Q (out) "8Q Output"
part B pins: 10 GND (power) "Ground Pin", 20 VCC (power) "Power Pin"

## SN74LV273ARGYR
designator U?
Octal D-Type Flip-Flops With Clear, RGY0020A, LARGE T&R; Generic Part Number: SN74LV273A; Manufacturer: Texas Instruments; PartNumber: SN74LV273ARGYR; VCC(Min)(V): 2; VCC(Max)(V): 5.5; Output Type: CMOS; Output: 2S; ICC @ Nom Voltage(Max)(mA): 0.02; Bits(#): 8; F @ Nom Voltage(Max)(Mhz): 70; Rating: Catalog; Technology Family: LV-A; Voltage(Nom)(V): 2.5,3.3,5; Schmitt Trigger: No; Output Drive (IOL/IOH)(Max)(mA): 50/-50; Output Logic: Non-inverted; tpd @ Nom Voltage(Max)(ns): 20.5,16,10.5; DatasheetVersion: SCLS399K; PackageReference: RGY0020A; Supplier 1: Digi-Key; Supplier Part Number 1: 296-13940-2-ND; Supplier 2: Digi-Key; Supplier Part Number 2: 296-13940-1-ND; Supplier 3: Digi-Key; Supplier Part Number 3: 296-13940-6-ND; Supplier 4: Mouser; Supplier Part Number 4: 595-SN74LV273ARGYR; Input Type: CMOS; Operating Temperature Range(C): -40 to 125,-40 to 85; 3-State Output: No; Code_JEDEC: MO-241; ComponentLink1Description: Manufacturer URL; ComponentLink1URL: http://www.ti.com/; ComponentLink2Description: Datasheet; ComponentLink2URL: http://www.ti.com/lit/ds/symlink/sn74lv273a.pdf; ComponentLink3Description: Package Specification; ComponentLink3URL: http://www.ti.com/lit/ml/mpqf116g/mpqf116g.pdf
footprint RGY0020A_V (QFN, 20-Leads, Body 4.5x3.5mm, Thermal Pad 3.05x2.05mm, TI Recommend)
part A pins: 1 CLR (in) "Clear Pin", 2 1Q (out) "1Q Output", 3 1D (in) "1D Input", 4 2D (in) "2D Input", 5 2Q (out) "2Q Output", 6 3Q (out) "3Q Output", 7 3D (in) "3D Input", 8 4D (in) "4D Input", 9 4Q (out) "4Q Output", 11 CLK (in) "Clock Pin", 12 5Q (out) "5Q Output", 13 5D (in) "5D Input", 14 6D (in) "6D Input", 15 6Q (out) "6Q Output", 16 7Q (out) "7Q Output", 17 7D (in) "7D Input", 18 8D (in) "8D Input", 19 8Q (out) "8Q Output"
part B pins: 10 GND (power) "Ground Pin", 20 VCC (power) "Power Pin", 21 EP

## SN74LV273AZQNR
designator U?
Octal D-Type Flip-Flops With Clear, ZQN0020A, LARGE T&R; Generic Part Number: SN74LV273A; Manufacturer: Texas Instruments; PartNumber: SN74LV273AZQNR; VCC(Min)(V): 2; VCC(Max)(V): 5.5; Output Type: CMOS; Output: 2S; ICC @ Nom Voltage(Max)(mA): 0.02; Bits(#): 8; F @ Nom Voltage(Max)(Mhz): 70; Rating: Catalog; Technology Family: LV-A; Voltage(Nom)(V): 2.5,3.3,5; Schmitt Trigger: No; Output Drive (IOL/IOH)(Max)(mA): 50/-50; Output Logic: Non-inverted; tpd @ Nom Voltage(Max)(ns): 20.5,16,10.5; DatasheetVersion: SCLS399K; PackageReference: ZQN0020A; Supplier 1: Digi-Key; Supplier Part Number 1: 296-23265-2-ND; Supplier 2: Digi-Key; Supplier Part Number 2: 296-23265-1-ND; Supplier 3: Digi-Key; Supplier Part Number 3: 296-23265-6-ND; Supplier 4: Mouser; Supplier Part Number 4: 595-SN74LV273AZQNR; Input Type: CMOS; Operating Temperature Range(C): -40 to 125,-40 to 85; 3-State Output: No; Code_JEDEC: MO-285; ComponentLink1Description: Manufacturer URL; ComponentLink1URL: http://www.ti.com/; ComponentLink2Description: Datasheet; ComponentLink2URL: http://www.ti.com/lit/ds/symlink/sn74lv273a.pdf; ComponentLink3Description: Package Specification; ComponentLink3URL: http://www.ti.com/lit/ml/mpbg297b/mpbg297b.pdf
footprint ZQN0020A (BGA, 20-Balls, Body 4x3mm, Pitch 0.65mm)
part A pins: A1 1Q (out) "1Q Output", A2 CLR (in) "Clear Pin", A4 8Q (out) "8Q Output", B1 2D (in) "2D Input", B2 7D (in) "7D Input", B3 1D (in) "1D Input", B4 8D (in) "8D Input", C1 3Q (out) "3Q Output", C2 2Q (out) "2Q Output", C3 6Q (out) "6Q Output", C4 7Q (out) "7Q Output", D1 4D (in) "4D Input", D2 5D (in) "5D Input", D3 3D (in) "3D Input", D4 6D (in) "6D Input", E2 4Q (out) "4Q Output", E3 CLK (in) "Clock Pin", E4 5Q (out) "5Q Output"
part B pins: A3 VCC (power) "Power Pin", E1 GND (power) "Ground Pin"

## SN74LV373ADBR
designator U?
Octal Transparent D-Type Latches With 3-State Outputs, DB0020A, LARGE T&R; Generic Part Number: SN74LV373A; Manufacturer: Texas Instruments; PartNumber: SN74LV373ADBR; VCC(Min)(V): 2; VCC(Max)(V): 5.5; Output Type: CMOS; Logic: True; ICC @ Nom Voltage(Max)(mA): 0.02; Bits(#): 8; F @ Nom Voltage(Max)(Mhz): 70; Rating: Catalog; Technology Family: LV-A; Voltage(Nom)(V): 2.5,3.3,5; Schmitt Trigger: No; Output Drive (IOL/IOH)(Max)(mA): 50/-50; Output Logic: Non-inverted; 3-State Output: Yes; tpd @ Nom Voltage(Max)(ns): 21,17,10.5; DatasheetVersion: SCLS407K; PackageReference: DB0020A; Supplier 1: Digi-Key; Supplier Part Number 1: 296-14317-2-ND; Supplier 2: Digi-Key; Supplier Part Number 2: 296-14317-1-ND; Supplier 3: Digi-Key; Supplier Part Number 3: 296-14317-6-ND; Supplier 4: Mouser; Supplier Part Number 4: 595-SN74LV373ADBR; Input Type: CMOS; Operating Temperature Range(C): -40 to 125,-40 to 85; Code_JEDEC: MO-150; ComponentLink1Description: Manufacturer URL; ComponentLink1URL: http://www.ti.com/; ComponentLink2Description: Datasheet; ComponentLink2URL: http://www.ti.com/lit/ds/symlink/sn74lv373a.pdf; ComponentLink3Description: Package Specification; ComponentLink3URL: http://www.ti.com/lit/ml/mpds508/mpds508.pdf
footprint DB0020A_N (SOP, 20-Leads, Body 5.6x7.5mm, Pitch 0.65mm, IPC Medium Density)
footprint DB0020A_M (SOP, 20-Leads, Body 5.6x7.5mm, Pitch 0.65mm, IPC Low Density)
footprint DB0020A_L (SOP, 20-Leads, Body 5.6x7.5mm, Pitch 0.65mm, IPC High Density)
pins: 1 ~{OE} (in) "Output Enable", 2 1Q (hiz) "1Q Output", 3 1D (in) "1D Input", 4 2D (in) "2D Input", 5 2Q (hiz) "2Q Output", 6 3Q (hiz) "3Q Output", 7 3D (in) "3D Input", 8 4D (in) "4D Input", 9 4Q (hiz) "4Q Output", 10 GND (power) "Ground Pin", 11 LE (in) "Latch Enable", 12 5Q (hiz) "5Q Output", 13 5D (in) "5D Input", 14 6D (in) "6D Input", 15 6Q (hiz) "6Q Output", 16 7Q (hiz) "7Q Output", 17 7D (in) "7D Input", 18 8D (in) "8D Input", 19 8Q (hiz) "8Q Output", 20 VCC (power) "Power Pin"

## SN74LV373ADGVR
designator U?
Octal Transparent D-Type Latches With 3-State Outputs, DGV0020A, LARGE T&R; Generic Part Number: SN74LV373A; Manufacturer: Texas Instruments; PartNumber: SN74LV373ADGVR; VCC(Min)(V): 2; VCC(Max)(V): 5.5; Output Type: CMOS; Logic: True; ICC @ Nom Voltage(Max)(mA): 0.02; Bits(#): 8; F @ Nom Voltage(Max)(Mhz): 70; Rating: Catalog; Technology Family: LV-A; Voltage(Nom)(V): 2.5,3.3,5; Schmitt Trigger: No; Output Drive (IOL/IOH)(Max)(mA): 50/-50; Output Logic: Non-inverted; 3-State Output: Yes; tpd @ Nom Voltage(Max)(ns): 21,17,10.5; DatasheetVersion: SCLS407K; PackageReference: DGV0020A; Supplier 1: Digi-Key; Supplier Part Number 1: 296-23671-2-ND; Supplier 2: Digi-Key; Supplier Part Number 2: 296-23671-1-ND; Supplier 3: Digi-Key; Supplier Part Number 3: 296-23671-6-ND; Supplier 4: Mouser; Supplier Part Number 4: 595-SN74LV373ADGVR; Input Type: CMOS; Operating Temperature Range(C): -40 to 125,-40 to 85; Code_JEDEC: MO-194; ComponentLink1Description: Manufacturer URL; ComponentLink1URL: http://www.ti.com/; ComponentLink2Description: Datasheet; ComponentLink2URL: http://www.ti.com/lit/ds/symlink/sn74lv373a.pdf; ComponentLink3Description: Package Specification; ComponentLink3URL: http://www.ti.com/lit/ml/mpds006c/mpds006c.pdf
footprint DGV0020A_N (SOP, 20-Leads, Body 4.5x5.1mm, Pitch 0.4mm, IPC Medium Density)
footprint DGV0020A_M (SOP, 20-Leads, Body 4.5x5.1mm, Pitch 0.4mm, IPC Low Density)
footprint DGV0020A_L (SOP, 20-Leads, Body 4.5x5.1mm, Pitch 0.4mm, IPC High Density)
pins: 1 ~{OE} (in) "Output Enable", 2 1Q (hiz) "1Q Output", 3 1D (in) "1D Input", 4 2D (in) "2D Input", 5 2Q (hiz) "2Q Output", 6 3Q (hiz) "3Q Output", 7 3D (in) "3D Input", 8 4D (in) "4D Input", 9 4Q (hiz) "4Q Output", 10 GND (power) "Ground Pin", 11 LE (in) "Latch Enable", 12 5Q (hiz) "5Q Output", 13 5D (in) "5D Input", 14 6D (in) "6D Input", 15 6Q (hiz) "6Q Output", 16 7Q (hiz) "7Q Output", 17 7D (in) "7D Input", 18 8D (in) "8D Input", 19 8Q (hiz) "8Q Output", 20 VCC (power) "Power Pin"

## SN74LV373ADW
designator U?
Octal Transparent D-Type Latches With 3-State Outputs, DW0020A, TUBE; Generic Part Number: SN74LV373A; Manufacturer: Texas Instruments; PartNumber: SN74LV373ADW; VCC(Min)(V): 2; VCC(Max)(V): 5.5; Output Type: CMOS; Logic: True; ICC @ Nom Voltage(Max)(mA): 0.02; Bits(#): 8; F @ Nom Voltage(Max)(Mhz): 70; Rating: Catalog; Technology Family: LV-A; Voltage(Nom)(V): 2.5,3.3,5; Schmitt Trigger: No; Output Drive (IOL/IOH)(Max)(mA): 50/-50; Output Logic: Non-inverted; 3-State Output: Yes; tpd @ Nom Voltage(Max)(ns): 21,17,10.5; DatasheetVersion: SCLS407K; PackageReference: DW0020A; Supplier 1: Digi-Key; Supplier Part Number 1: 296-1687-5-ND; Supplier 2: Farnell; Supplier Part Number 2: 1750131; Supplier 3: Newark; Supplier Part Number 3: 50R6732; Supplier 4: Mouser; Supplier Part Number 4: 595-SN74LV373ADW; Input Type: CMOS; Operating Temperature Range(C): -40 to 125,-40 to 85; Code_JEDEC: MS-013; ComponentLink1Description: Manufacturer URL; ComponentLink1URL: http://www.ti.com/; ComponentLink2Description: Datasheet; ComponentLink2URL: http://www.ti.com/lit/ds/symlink/sn74lv373a.pdf; ComponentLink3Description: Package Specification; ComponentLink3URL: http://www.ti.com/lit/ml/mpds173a/mpds173a.pdf
footprint DW0020A_N (SOIC, 20-Leads, Body 13x7.6mm, Pitch 1.27mm, IPC Medium Density)
footprint DW0020A_M (SOIC, 20-Leads, Body 13x7.6mm, Pitch 1.27mm, IPC Low Density)
footprint DW0020A_L (SOIC, 20-Leads, Body 13x7.6mm, Pitch 1.27mm, IPC High Density)
pins: 1 ~{OE} (in) "Output Enable", 2 1Q (hiz) "1Q Output", 3 1D (in) "1D Input", 4 2D (in) "2D Input", 5 2Q (hiz) "2Q Output", 6 3Q (hiz) "3Q Output", 7 3D (in) "3D Input", 8 4D (in) "4D Input", 9 4Q (hiz) "4Q Output", 10 GND (power) "Ground Pin", 11 LE (in) "Latch Enable", 12 5Q (hiz) "5Q Output", 13 5D (in) "5D Input", 14 6D (in) "6D Input", 15 6Q (hiz) "6Q Output", 16 7Q (hiz) "7Q Output", 17 7D (in) "7D Input", 18 8D (in) "8D Input", 19 8Q (hiz) "8Q Output", 20 VCC (power) "Power Pin"

## SN74LV373ADWR
designator U?
Octal Transparent D-Type Latches With 3-State Outputs, DW0020A, LARGE T&R; Generic Part Number: SN74LV373A; Manufacturer: Texas Instruments; PartNumber: SN74LV373ADWR; VCC(Min)(V): 2; VCC(Max)(V): 5.5; Output Type: CMOS; Logic: True; ICC @ Nom Voltage(Max)(mA): 0.02; Bits(#): 8; F @ Nom Voltage(Max)(Mhz): 70; Rating: Catalog; Technology Family: LV-A; Voltage(Nom)(V): 2.5,3.3,5; Schmitt Trigger: No; Output Drive (IOL/IOH)(Max)(mA): 50/-50; Output Logic: Non-inverted; 3-State Output: Yes; tpd @ Nom Voltage(Max)(ns): 21,17,10.5; DatasheetVersion: SCLS407K; PackageReference: DW0020A; Supplier 1: Digi-Key; Supplier Part Number 1: 296-16657-2-ND; Supplier 2: Digi-Key; Supplier Part Number 2: 296-16657-1-ND; Supplier 3: Digi-Key; Supplier Part Number 3: 296-16657-6-ND; Supplier 4: Newark; Supplier Part Number 4: 76C4839; Supplier 5: Mouser; Supplier Part Number 5: 595-SN74LV373ADWR; Input Type: CMOS; Operating Temperature Range(C): -40 to 125,-40 to 85; Code_JEDEC: MS-013; ComponentLink1Description: Manufacturer URL; ComponentLink1URL: http://www.ti.com/; ComponentLink2Description: Datasheet; ComponentLink2URL: http://www.ti.com/lit/ds/symlink/sn74lv373a.pdf; ComponentLink3Description: Package Specification; ComponentLink3URL: http://www.ti.com/lit/ml/mpds173a/mpds173a.pdf
footprint DW0020A_N (SOIC, 20-Leads, Body 13x7.6mm, Pitch 1.27mm, IPC Medium Density)
footprint DW0020A_M (SOIC, 20-Leads, Body 13x7.6mm, Pitch 1.27mm, IPC Low Density)
footprint DW0020A_L (SOIC, 20-Leads, Body 13x7.6mm, Pitch 1.27mm, IPC High Density)
pins: 1 ~{OE} (in) "Output Enable", 2 1Q (hiz) "1Q Output", 3 1D (in) "1D Input", 4 2D (in) "2D Input", 5 2Q (hiz) "2Q Output", 6 3Q (hiz) "3Q Output", 7 3D (in) "3D Input", 8 4D (in) "4D Input", 9 4Q (hiz) "4Q Output", 10 GND (power) "Ground Pin", 11 LE (in) "Latch Enable", 12 5Q (hiz) "5Q Output", 13 5D (in) "5D Input", 14 6D (in) "6D Input", 15 6Q (hiz) "6Q Output", 16 7Q (hiz) "7Q Output", 17 7D (in) "7D Input", 18 8D (in) "8D Input", 19 8Q (hiz) "8Q Output", 20 VCC (power) "Power Pin"

## SN74LV373AIPWRG4Q1
designator U?
Automotive Catalog Octal Transparent D-Type Latches With 3-State Outputs, PW0020A, LARGE T&R; Generic Part Number: SN74LV373A-Q1; Manufacturer: Texas Instruments; PartNumber: SN74LV373AIPWRG4Q1; VCC(Min)(V): 2; VCC(Max)(V): 5.5; Output Type: CMOS; Logic: True; Static Current: 0.02; Bits(#): 8; F @ Nom Voltage(Max)(Mhz): 70; Technology Family: LV-A; Voltage(Nom)(V): 2.5,3.3,5; Schmitt Trigger: No; Output Drive (IOL/IOH)(Max)(mA): 50/-50; Output Logic: Non-inverted; 3-State Output: Yes; tpd @ Nom Voltage(Max)(ns): 21,17,10.5; DatasheetVersion: SCLS586C; PackageReference: PW0020A; Supplier 1: Digi-Key; Supplier Part Number 1: SN74LV373AIPWRG4Q1-ND; Supplier 2: Mouser; Supplier Part Number 2: 595-74LV373AIPWRG4Q1; ICC @ Nom Voltage(Max)(mA): 0.02; Input Type: CMOS; Operating Temperature Range(C): -40 to 85; Rating: Automotive; Code_JEDEC: MO-153; ComponentLink1Description: Manufacturer URL; ComponentLink1URL: http://www.ti.com/; ComponentLink2Description: Datasheet; ComponentLink2URL: http://www.ti.com/lit/ds/symlink/sn74lv373a-q1.pdf; ComponentLink3Description: Package Specification; ComponentLink3URL: http://www.ti.com/lit/ml/mpds362/mpds362.pdf
footprint PW0020A_N (SOP, 20-Leads, Body 6.6x4.5mm, Pitch 0.65mm, IPC Medium Density)
footprint PW0020A_M (SOP, 20-Leads, Body 6.6x4.5mm, Pitch 0.65mm, IPC Low Density)
footprint PW0020A_L (SOP, 20-Leads, Body 6.6x4.5mm, Pitch 0.65mm, IPC High Density)
pins: 1 ~{OE} (in) "Output Enable", 2 1Q (hiz) "1Q Output", 3 1D (in) "1D Input", 4 2D (in) "2D Input", 5 2Q (hiz) "2Q Output", 6 3Q (hiz) "3Q Output", 7 3D (in) "3D Input", 8 4D (in) "4D Input", 9 4Q (hiz) "4Q Output", 10 GND (power) "Ground Pin", 11 LE (in) "Latch Enable", 12 5Q (hiz) "5Q Output", 13 5D (in) "5D Input", 14 6D (in) "6D Input", 15 6Q (hiz) "6Q Output", 16 7Q (hiz) "7Q Output", 17 7D (in) "7D Input", 18 8D (in) "8D Input", 19 8Q (hiz) "8Q Output", 20 VCC (power) "Power Pin"

## SN74LV373AIPWRQ1
designator U?
Automotive Catalog Octal Transparent D-Type Latches With 3-State Outputs, PW0020A, LARGE T&R; Generic Part Number: SN74LV373A-Q1; Manufacturer: Texas Instruments; PartNumber: SN74LV373AIPWRQ1; VCC(Min)(V): 2; VCC(Max)(V): 5.5; Output Type: CMOS; Logic: True; Static Current: 0.02; Bits(#): 8; F @ Nom Voltage(Max)(Mhz): 70; Technology Family: LV-A; Voltage(Nom)(V): 2.5,3.3,5; Schmitt Trigger: No; Output Drive (IOL/IOH)(Max)(mA): 50/-50; Output Logic: Non-inverted; 3-State Output: Yes; tpd @ Nom Voltage(Max)(ns): 21,17,10.5; DatasheetVersion: SCLS586C; PackageReference: PW0020A; Supplier 1: Digi-Key; Supplier Part Number 1: 296-36978-2-ND; Supplier 2: Digi-Key; Supplier Part Number 2: 296-36978-1-ND; Supplier 3: Digi-Key; Supplier Part Number 3: 296-36978-6-ND; Supplier 4: Mouser; Supplier Part Number 4: 595-SN74LV373AIPWRQ1; ICC @ Nom Voltage(Max)(mA): 0.02; Input Type: CMOS; Operating Temperature Range(C): -40 to 85; Rating: Automotive; Code_JEDEC: MO-153; ComponentLink1Description: Manufacturer URL; ComponentLink1URL: http://www.ti.com/; ComponentLink2Description: Datasheet; ComponentLink2URL: http://www.ti.com/lit/ds/symlink/sn74lv373a-q1.pdf; ComponentLink3Description: Package Specification; ComponentLink3URL: http://www.ti.com/lit/ml/mpds362/mpds362.pdf
footprint PW0020A_N (SOP, 20-Leads, Body 6.6x4.5mm, Pitch 0.65mm, IPC Medium Density)
footprint PW0020A_M (SOP, 20-Leads, Body 6.6x4.5mm, Pitch 0.65mm, IPC Low Density)
footprint PW0020A_L (SOP, 20-Leads, Body 6.6x4.5mm, Pitch 0.65mm, IPC High Density)
pins: 1 ~{OE} (in) "Output Enable", 2 1Q (hiz) "1Q Output", 3 1D (in) "1D Input", 4 2D (in) "2D Input", 5 2Q (hiz) "2Q Output", 6 3Q (hiz) "3Q Output", 7 3D (in) "3D Input", 8 4D (in) "4D Input", 9 4Q (hiz) "4Q Output", 10 GND (power) "Ground Pin", 11 LE (in) "Latch Enable", 12 5Q (hiz) "5Q Output", 13 5D (in) "5D Input", 14 6D (in) "6D Input", 15 6Q (hiz) "6Q Output", 16 7Q (hiz) "7Q Output", 17 7D (in) "7D Input", 18 8D (in) "8D Input", 19 8Q (hiz) "8Q Output", 20 VCC (power) "Power Pin"